# EAGLE library part AD790 (library Fitch_Eagle_Library)
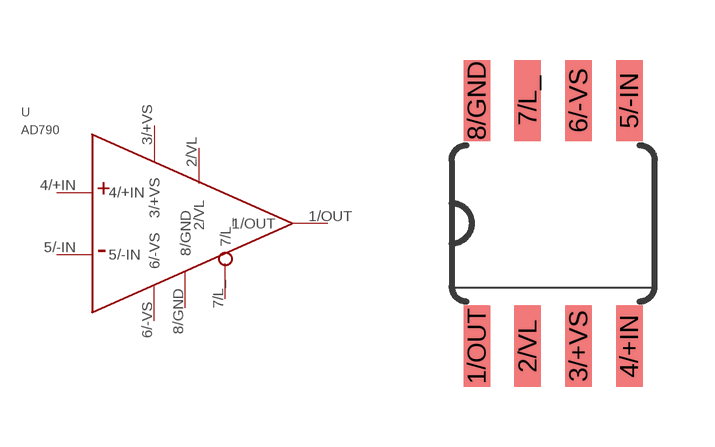
[diagram p18: symbol with the pads of AD790; footprint AD790]

Designator prefix -

## AD790  [AD790]
1/OUT  1/OUT
2/VL  2/VL
3/+VS  3/+VS
4/+IN  4/+IN
5/-IN  5/-IN
6/-VS  6/-VS
7/L_  7/L_
8/GND  8/GND

## Footprint AD790 (pad centres in mm)
smd 0.66 x 2.032: 1/OUT -1.905,-3.073; 2/VL -0.635,-3.073; 3/+VS 0.635,-3.073; 4/+IN 1.905,-3.073; 5/-IN 1.905,3.073; 6/-VS 0.635,3.073; 7/L_ -0.635,3.073; 8/GND -1.905,3.073